# Altium schematic symbol library STM32WL33CCV7.SchLib: 2 symbols
Pins are listed as number, name and electrical type; pins without a type are passive.

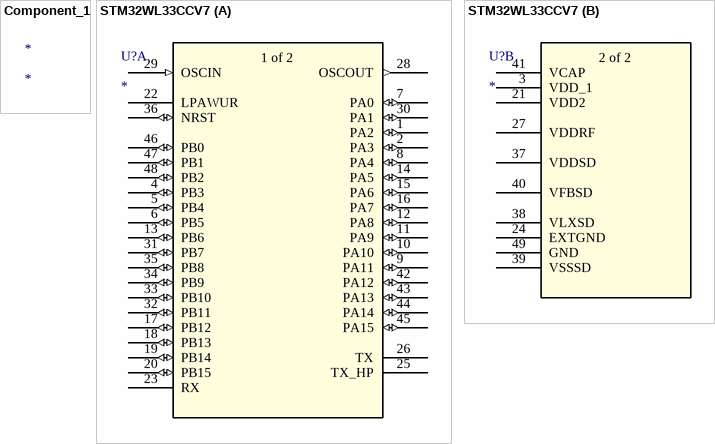
[diagram p0: symbols Component_1 to STM32WL33CCV7]

## Component_1
designator *

## STM32WL33CCV7
designator U?
No Description Available; Mfr_Name: STMicroelectronics; RefDes: RefDes; Type: Type
footprint UFQFPN-48_STM
part A pins: 1 PA2 (io), 2 PA3 (io), 4 PB3 (io), 5 PB4 (io), 6 PB5 (io), 7 PA0 (io), 8 PA4 (io), 9 PA11 (io), 10 PA10 (io), 11 PA9 (io), 12 PA8 (io), 13 PB6 (io), 14 PA5 (io), 15 PA6 (io), 16 PA7 (io), 17 PB12 (io), 18 PB13 (io), 19 PB14 (io), 20 PB15 (io), 22 LPAWUR, 23 RX, 25 TX_HP, 26 TX, 28 OSCOUT (out), 29 OSCIN (in), 30 PA1 (io), 31 PB7 (io), 32 PB11 (io), 33 PB10 (io), 34 PB9 (io), 35 PB8 (io), 36 NRST (io), 42 PA12 (io), 43 PA13 (io), 44 PA14 (io), 45 PA15 (io), 46 PB0 (io), 47 PB1 (io), 48 PB2 (io)
part B pins: 3 VDD_1 (power), 21 VDD2 (power), 24 EXTGND (power), 27 VDDRF (power), 37 VDDSD (power), 38 VLXSD (power), 39 VSSSD (power), 40 VFBSD (power), 41 VCAP (power), 49 GND (power)
part A text: 1 of 2
part B text: 2 of 2